# Altium footprint library 3386P1473LF.PcbLib: 1 footprints
Each footprint in its own frame and in the unit in brackets; x right, y up, seen from the top. Pads: shape width x height; smd on the part's side, far side on the other; paste and mask are expansions set on the pad; w line width, h text height; cw(c..) or ccw(c..) is an arc to the next point about the centre after c.
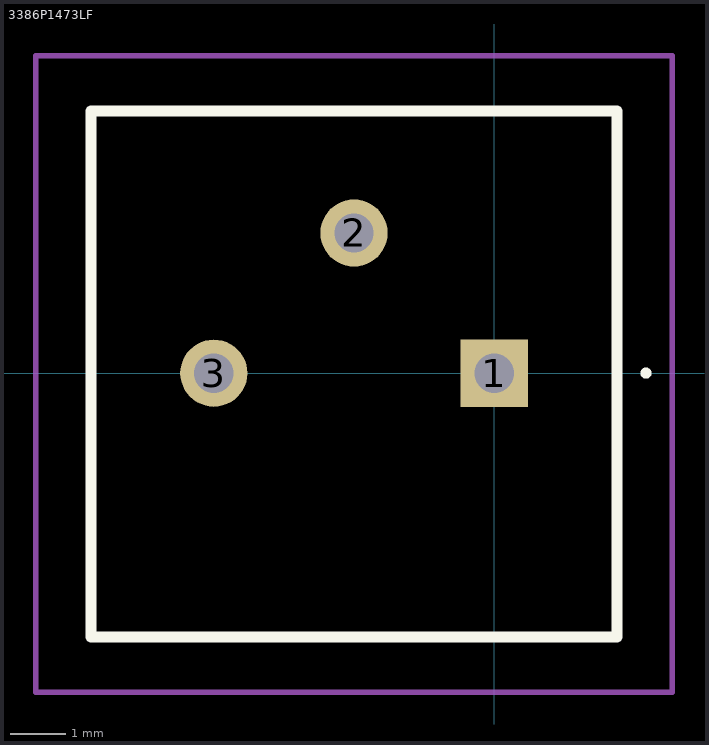
[diagram p0: the footprint, top view; thin cyan lines are the x and y axes]

## 3386P1473LF [mm]
pads (3):
  rect 1.217x1.217 hole 0.71: 1(0,0)
  round 1.217 hole 0.71: 2(-2.54,2.54) 3(-5.08,0)
Top Overlay:
  lines w0.1: 2.7,0 cw(c2.75,0) 2.8,0 ; 2.7,0 2.7,0 ; 2.7,0 ccw(c2.75,0) 2.8,0 ; 2.8,0 2.8,0
  lines w0.2: -7.305,-4.78 2.225,-4.78 2.225,4.75 -7.305,4.75 -7.305,-4.78
Mechanical 15:
  lines w0.1: -7.305,-4.78 2.225,-4.78 2.225,4.75 -7.305,4.75 -7.305,-4.78
Mechanical 20:
  lines w0.1: -8.305,-5.78 3.225,-5.78 3.225,5.75 -8.305,5.75 -8.305,-5.78